# Altium footprint library Con Audio.PcbLib: 15 footprints
Each footprint in its own frame and in the unit in brackets; x right, y up, seen from the top. Pads: shape width x height; smd on the part's side, far side on the other; paste and mask are expansions set on the pad; w line width, h text height; cw(c..) or ccw(c..) is an arc to the next point about the centre after c.
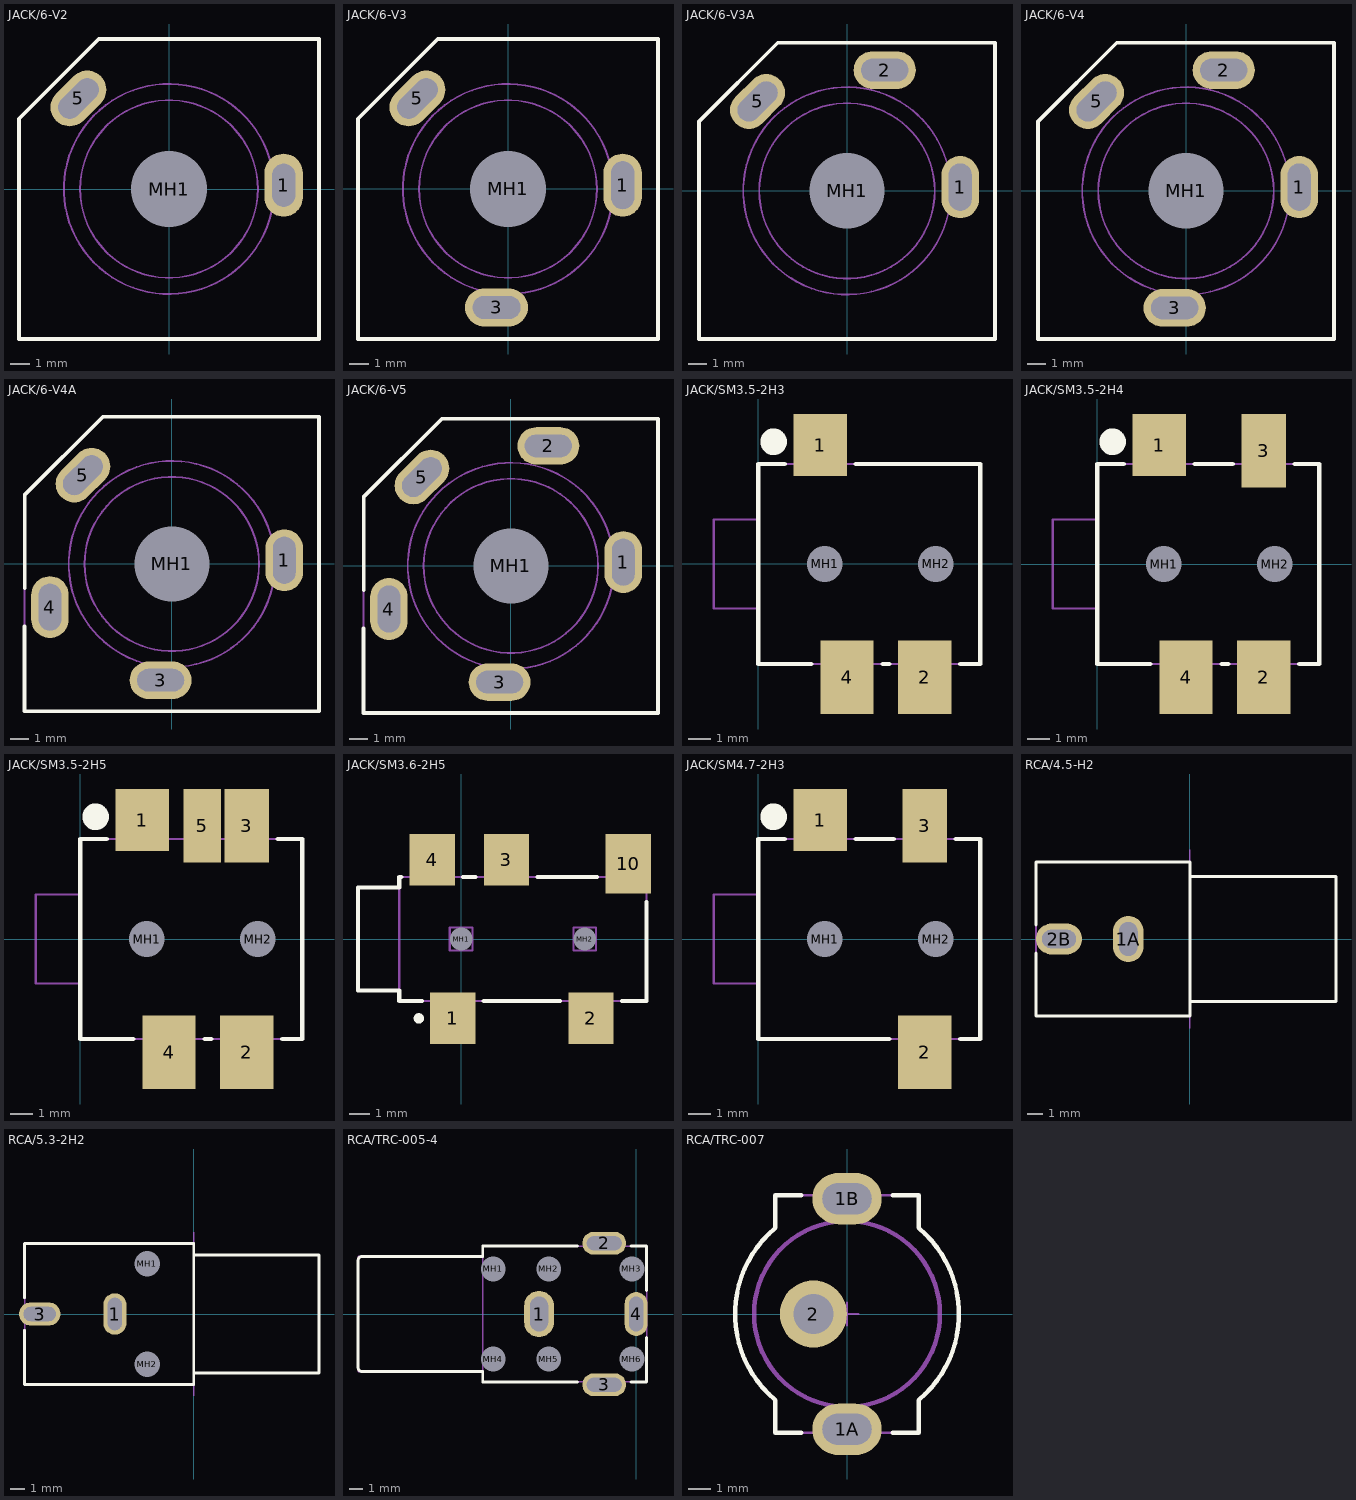
[diagram p0: the footprints below, top view; thin cyan lines are the x and y axes]

## JACK/6-V2 [mm] "Connector; Jack Socket, 1/4\" [6.5mm], Thru-Hole, 2 Position, Vertical, Body 15.7 x 15.7 x 31 mm (WxTxH)"
height 31.1
pads (3):
  oval 2x3.3 hole 1.2 slot 2.25 at 90 deg: 1(6,0.2)
  oval 2x3.3 hole 1.2 slot 2.5 at 45 deg rot 135: 5(-4.738,4.738)
  round 3.7 hole 4 unplated: MH1(0,0)
Top Overlay:
  lines w0.2: -7.85,-7.85 7.85,-7.85 7.85,7.85 -3.675,7.85 -7.85,3.675 -7.85,-7.85
Mechanical 2:
  lines w0.1: -7.85,-7.85 7.85,-7.85 7.85,7.85 -3.675,7.85 -7.85,3.675 -7.85,-7.85
Mechanical 13:
  circle w0.1: c0,0 r5.5
  circle w0.1: c0,0 r4.65
3D body: height 31.1, standoff 24, extent -4.659,-4.659 4.659,4.659
3D body: height 24, standoff 23, extent -5.511,-5.511 5.511,5.511
3D body: height 23, standoff 0, extent -7.851,-7.851 7.851,7.851

## JACK/6-V3 [mm] "Connector; Jack Socket, 1/4\" [6.5mm], Thru-Hole, 3 Position, Vertical, Body 15.7 x 15.7 x 31 mm (WxTxH)"
height 31.1
pads (4):
  oval 2x3.3 hole 1.2 slot 2.5 at 90 deg: 1(6,0.2)
  oval 3.3x2 hole 1.2 slot 2.5 at 0 deg: 3(-0.6,-6.2)
  oval 2x3.3 hole 1.2 slot 2.5 at 45 deg rot 135: 5(-4.738,4.738)
  round 3.7 hole 4 unplated: MH1(0,0)
Top Overlay:
  lines w0.2: -7.85,-7.85 -7.85,3.675 -3.675,7.85 7.85,7.85 7.85,-7.85 -7.85,-7.85
Mechanical 13:
  circle w0.1: c0,0 r4.65
  circle w0.1: c0,0 r5.5
  lines w0.1: -7.85,-7.85 7.85,-7.85 7.85,7.85 -3.675,7.85 -7.85,3.675 -7.85,-7.85
3D body: height 31.1, standoff 24, extent -4.659,-4.659 4.659,4.659
3D body: height 24, standoff 23, extent -5.511,-5.511 5.511,5.511
3D body: height 23, standoff 0, extent -7.851,-7.851 7.851,7.851

## JACK/6-V3A [mm] "Connector; Jack Socket, 1/4\" [6.5mm], Thru-Hole, 3 Position, Vertical, Body 15.7 x 15.7 x 31 mm (WxTxH)"
height 31.1
pads (4):
  oval 2x3.3 hole 1.2 slot 2.5 at 90 deg: 1(6,0.2)
  oval 3.3x2 hole 1.2 slot 2.5 at 0 deg: 2(2,6.4)
  oval 2x3.3 hole 1.2 slot 2.5 at 45 deg rot 135: 5(-4.738,4.738)
  round 3.7 hole 4 unplated: MH1(0,0)
Top Overlay:
  lines w0.2: -7.85,-7.85 -7.85,3.675 -3.675,7.85 7.85,7.85 7.85,-7.85 -7.85,-7.85
Mechanical 13:
  circle w0.1: c0,0 r4.65
  circle w0.1: c0,0 r5.5
  lines w0.1: -7.85,-7.85 7.85,-7.85 7.85,7.85 -3.675,7.85 -7.85,3.675 -7.85,-7.85
3D body: height 31.1, standoff 24, extent -4.659,-4.659 4.659,4.659
3D body: height 24, standoff 23, extent -5.511,-5.511 5.511,5.511
3D body: height 23, standoff 0, extent -7.851,-7.851 7.851,7.851

## JACK/6-V4 [mm] "Connector; Jack Socket, 1/4\" [6.5mm], Thru-Hole, 4 Position, Vertical, Body 15.7 x 15.7 x 31 mm (WxTxH)"
height 31.1
pads (5):
  oval 2x3.3 hole 1.2 slot 2.5 at 90 deg: 1(6,0.2)
  oval 3.3x2 hole 1.2 slot 2.5 at 0 deg: 2(2,6.4) 3(-0.6,-6.2)
  oval 2x3.3 hole 1.2 slot 2.5 at 45 deg rot 135: 5(-4.738,4.738)
  round 3.7 hole 4 unplated: MH1(0,0)
Top Overlay:
  lines w0.2: -7.85,-7.85 -7.85,3.675 -3.675,7.85 7.85,7.85 7.85,-7.85 -7.85,-7.85
Mechanical 13:
  circle w0.1: c0,0 r5.5
  circle w0.1: c0,0 r4.65
  lines w0.1: -7.85,-7.85 -7.85,3.675 -3.675,7.85 7.85,7.85 7.85,-7.85 -7.85,-7.85
3D body: height 31.1, standoff 24, extent -4.659,-4.659 4.659,4.659
3D body: height 24, standoff 23, extent -5.511,-5.511 5.511,5.511
3D body: height 23, standoff 0, extent -7.851,-7.851 7.851,7.851

## JACK/6-V4A [mm] "Connector; Jack Socket, 1/4\" [6.5mm], Thru-Hole, 4 Position, Vertical, Body 15.7 x 15.7 x 31 mm (WxTxH)"
height 31.1
pads (5):
  oval 2x3.3 hole 1.2 slot 2.5 at 90 deg: 1(6,0.2) 4(-6.5,-2.3)
  oval 3.3x2 hole 1.2 slot 2.5 at 0 deg: 3(-0.6,-6.2)
  oval 2x3.3 hole 1.2 slot 2.5 at 45 deg rot 135: 5(-4.738,4.738)
  round 3.7 hole 4 unplated: MH1(0,0)
Top Overlay:
  lines w0.2: -7.85,-3.32 -7.85,-7.85 7.85,-7.85 7.85,7.85 -3.675,7.85 -7.85,3.675 -7.85,-1.28
Mechanical 13:
  circle w0.1: c0,0 r4.65
  circle w0.1: c0,0 r5.5
  lines w0.1: -7.85,-7.85 7.85,-7.85 7.85,7.85 -3.675,7.85 -7.85,3.675 -7.85,-7.85
3D body: height 31.1, standoff 24, extent -4.659,-4.659 4.659,4.659
3D body: height 24, standoff 23, extent -5.511,-5.511 5.511,5.511
3D body: height 23, standoff 0, extent -7.851,-7.851 7.851,7.851

## JACK/6-V5 [mm] "Connector; Jack Socket, 1/4\" [6.5mm], Thru-Hole, 5 Position, Vertical, Body 15.7 x 15.7 x 31 mm (WxTxH)"
height 31.1
pads (6):
  oval 2x3.3 hole 1.2 slot 2.5 at 90 deg: 1(6,0.2) 4(-6.5,-2.3)
  oval 3.3x2 hole 1.2 slot 2.5 at 0 deg: 2(2,6.4) 3(-0.6,-6.2)
  oval 2x3.3 hole 1.2 slot 2.5 at 45 deg rot 135: 5(-4.738,4.738)
  round 3.7 hole 4 unplated: MH1(0,0)
Top Overlay:
  lines w0.2: -7.85,-3.32 -7.85,-7.85 7.85,-7.85 7.85,7.85 -3.675,7.85 -7.85,3.675 -7.85,-1.28
Mechanical 13:
  circle w0.1: c0,0 r5.5
  circle w0.1: c0,0 r4.65
  lines w0.1: -7.85,-7.85 7.85,-7.85 7.85,7.85 -3.675,7.85 -7.85,3.675 -7.85,-7.85
3D body: height 23, standoff 0, extent -7.851,-7.851 7.851,7.851
3D body: height 24, standoff 23, extent -5.511,-5.511 5.511,5.511
3D body: height 31.1, standoff 24, extent -4.659,-4.659 4.659,4.659

## JACK/SM3.5-2H3 [mm] "STX-2550 Series Surface Mount 2.5mm Audio Jack"
height 4
pads (5):
  rect 2.4x2.8 smd: 1(2.8,5.35)
  rect 2.4x3.3 smd: 2(7.5,-5.1) 4(4,-5.1)
  round 1.3 hole 1.6 unplated: MH1(3,0) MH2(8,0)
Top Overlay:
  circle w0.6: c0.7,5.5 r0.3
  lines w0.2: 1.2,4.5 0,4.5 0,2.25 0,-2.25 0,-4.5 2.4,-4.5 ; 4.4,4.5 10,4.5 10,-4.5 9.1,-4.5 ; 5.6,-4.5 5.9,-4.5
Mechanical 13:
  lines w0.1: -2,-2 0,-2 0,-4.5 10,-4.5 10,4.5 0,4.5 0,2 -2,2 -2,-2
3D body: height 3.98, standoff 0, extent -1.999,-1.999 0.001,1.993
3D body: height 4, standoff 0, extent 0.001,-4.499 9.999,4.499

## JACK/SM3.5-2H4 [mm] "STX-2550 Series Surface Mount 2.5mm Audio Jack"
height 4
pads (6):
  rect 2.4x2.8 smd: 1(2.8,5.35)
  rect 2.4x3.3 smd: 2(7.5,-5.1) 4(4,-5.1)
  rect 2x3.3 smd: 3(7.5,5.1)
  round 1.3 hole 1.6 unplated: MH1(3,0) MH2(8,0)
Top Overlay:
  circle w0.6: c0.7,5.5 r0.3
  lines w0.2: 1.2,4.5 0,4.5 0,2.25 0,-2.25 0,-4.5 2.4,-4.5 ; 4.4,4.5 6.1,4.5 ; 5.6,-4.5 5.9,-4.5 ; 8.9,4.5 10,4.5 10,-4.5 9.1,-4.5
Mechanical 13:
  lines w0.1: -2,-2 0,-2 0,-4.5 10,-4.5 10,4.5 0,4.5 0,2 -2,2 -2,-2
3D body: height 3.98, standoff 0, extent -1.999,-1.999 0.001,1.993
3D body: height 4, standoff 0, extent 0.001,-4.499 9.999,4.499

## JACK/SM3.5-2H5 [mm] "STX-2550 Series Surface Mount 2.5mm Audio Jack"
height 4
pads (7):
  rect 2.4x2.8 smd: 1(2.8,5.35)
  rect 2.4x3.3 smd: 2(7.5,-5.1) 4(4,-5.1)
  rect 2x3.3 smd: 3(7.5,5.1)
  rect 1.7x3.3 smd: 5(5.5,5.1)
  round 1.3 hole 1.6 unplated: MH1(3,0) MH2(8,0)
Top Overlay:
  circle w0.6: c0.7,5.5 r0.3
  lines w0.2: 1.2,4.5 0,4.5 0,2.25 0,-2.25 0,-4.5 2.4,-4.5 ; 5.6,-4.5 5.9,-4.5 ; 8.9,4.5 10,4.5 10,-4.5 9.1,-4.5
Mechanical 13:
  lines w0.1: -2,-2 0,-2 0,-4.5 10,-4.5 10,4.5 0,4.5 0,2 -2,2 -2,-2
3D body: height 3.98, standoff 0, extent -1.999,-1.999 0.001,1.993
3D body: height 4, standoff 0, extent 0.001,-4.499 9.999,4.499

## JACK/SM3.6-2H5 [mm] "Phone Jack, Right Angle, SM, Body 14x6x4.8mm (LxWxH)"
height 4.87
pads (7):
  rect 2.2x2.5 smd: 1(-0.4,-3.85) 2(6.3,-3.85) 3(2.2,3.85) 4(-1.4,3.85)
  rect 2.2x2.9 smd: 10(8.1,3.65)
  round 0.8 hole 1.1 unplated: MH1(0,0) MH2(6,0)
Top Overlay:
  circle w0.25: c-2.05,-3.85 r0.125
  lines w0.2: -2.9,3 -3,3 -3,2.5 -5,2.5 -5,-2.5 -3,-2.5 -3,-3 -1.9,-3 ; 0.1,3 0.7,3 ; 1.1,-3 4.8,-3 ; 3.7,3 6.6,3 ; 7.8,-3 9,-3 9,1.8
Mechanical 13:
  lines w0.1: -3,-2.5 -5,-2.5 -5,2.5 -3,2.5 ; -3,-3 9,-3 9,3 -3,3 -3,-3 ; -0.55,-0.55 0.55,-0.55 0.55,0.55 -0.55,0.55 -0.55,-0.55 ; 5.45,-0.55 5.45,0.55 6.55,0.55 6.55,-0.55 5.45,-0.55
3D body: height 4.87, standoff 0.1, extent -2.999,-2.999 8.999,2.999
3D body: height 4.78, standoff -0.2, extent -4.999,-2.495 -2.999,2.495
3D body: height 0.1, standoff -0.4, extent -0.549,-0.549 0.549,0.549
3D body: height 0.1, standoff -0.4, extent 5.451,-0.549 6.549,0.549

## JACK/SM4.7-2H3 [mm] "STX-2550 Series Surface Mount 2.5mm Audio Jack"
height 4
pads (5):
  rect 2.4x2.8 smd: 1(2.8,5.35)
  rect 2.4x3.3 smd: 2(7.5,-5.1)
  rect 2x3.3 smd: 3(7.5,5.1)
  round 1.3 hole 1.6 unplated: MH1(3,0) MH2(8,0)
Top Overlay:
  circle w0.6: c0.7,5.5 r0.3
  lines w0.2: 1.2,4.5 0,4.5 0,2.25 0,-2.25 0,-4.5 5.9,-4.5 ; 4.4,4.5 6.1,4.5 ; 8.9,4.5 10,4.5 10,-4.5 9.1,-4.5
Mechanical 13:
  lines w0.1: -2,-2 0,-2 0,-4.5 10,-4.5 10,4.5 0,4.5 0,2 -2,2 -2,-2
3D body: height 3.98, standoff 0, extent -1.999,-1.999 0.001,1.993
3D body: height 4, standoff 0, extent 0.001,-4.499 9.999,4.499

## RCA/4.5-H2 [mm] "Two Conductor Jack (RCA), Right Angle, Thru-Hole, Body 10 x 10 x 13 mm (WxTxH)"
height 13
pads (2):
  oval 2x3 hole 1.2 slot 2.2 at 90 deg: 1A(-4,0)
  oval 3x2 hole 1.2 slot 2.2 at 0 deg: 2B(-8.5,0)
Top Overlay:
  lines w0.2: -10,-0.92 -10,-5 0,-5 0,5 -10,5 -10,0.92 ; 0,-4.065 9.5,-4.065 9.5,4.065 0,4.065
Mechanical 1:
  lines w0.1: 0,-5.8 0,5.8
  text "PCB Edge" at -0.333,-4.618 h0.25
Mechanical 13:
  lines w0.1: 0,-4.065 9.5,-4.065 9.5,4.065 0,4.065 ; -10,-5 -10,5 0,5 0,-5 -10,-5
3D body: height 10.53, standoff 2.43, extent 0.001,-4.064 9.501,4.049
3D body: height 13, standoff 0, extent -9.999,-4.999 -0.001,4.999

## RCA/5.3-2H2 [mm] "Two Conductor Jack (RCA), Right Angle, Thru-Hole, Body 10 x 12 x 13 mm (WxTxH)"
height 13
pads (4):
  oval 1.65x2.94 hole 1 slot 2.3 at 90 deg: 1(-5.59,0)
  oval 2.94x1.65 hole 1 slot 2.3 at 0 deg: 3(-10.924,0)
  round 1.5 hole 1.8 unplated: MH1(-3.304,3.556) MH2(-3.304,-3.556)
Top Overlay:
  lines w0.2: -12,-1.15 -12,-5 0,-5 0,5 -12,5 -12,1.15 ; 0,-4.19 8.89,-4.19 8.89,4.19 0,4.19
Mechanical 1:
  lines w0.1: 0,-5.8 0,5.8
  text "PCB Edge" at -0.343,-4.647 h0.25
Mechanical 13:
  lines w0.1: 0,-4.19 8.89,-4.19 8.89,4.19 0,4.19 ; -12,-5 0,-5 0,5 -12,5 -12,-5
3D body: height 13, standoff 0, extent -11.999,-4.999 -0.001,4.999
3D body: height 10.76, standoff 2.41, extent 0.001,-4.189 8.891,4.174

## RCA/TRC-005-4 [mm] "RCA Phono Jack, Right Angle, Thru-Hole, Body 20.8 x 9.8 x 11 mm (LxWxH)"
height 11
pads (10):
  oval 2.15x3.35 hole 1.3 slot 2.5 at 90 deg: 1(-7,0)
  oval 3.15x1.65 hole 1 slot 2.5 at 0 deg: 2(-2.3,5.1) 3(-2.3,-5.1)
  oval 1.65x3.15 hole 1 slot 2.5 at 90 deg: 4(0,0)
  round 1.5 hole 1.8 unplated: MH1(-10.3,3.25) MH2(-6.3,3.25) MH3(-0.3,3.25) MH4(-10.3,-3.25) MH5(-6.3,-3.25) MH6(-0.3,-3.25)
Top Overlay:
  lines w0.2: -4.235,-4.9 -11.05,-4.9 -11.05,-4.15 -19.75,-4.15 cw(c-19.75,-3.85) -20.05,-3.85 -20.05,3.85 cw(c-19.75,3.85) -19.75,4.15 -11.05,4.15 -11.05,4.9 -4.235,4.9 ; -0.365,-4.9 0.75,-4.9 0.75,-1.69 ; -0.365,4.9 0.75,4.9 0.75,1.69
Mechanical 13:
  lines w0.1: -11.05,4.15 -20.05,4.15 -20.05,-4.15 -11.05,-4.15 -11.05,-4.9 ; -11.05,-4.9 -11.05,4.9 0.75,4.9 0.75,-4.9 -11.05,-4.9
3D body: height 11, standoff 0, extent -11.049,-4.899 0.749,4.899
3D body: height 9.12, standoff 0.85, extent -20.049,-4.149 -11.049,4.134

## RCA/TRC-007 [mm] "RCA Socket, Vertical, Thru-Hole, Body 10.6 x 10 x 15 mm (LxWxH)"
height 15
pads (3):
  oval 3.1x2.3 hole 1.4 slot 2.2 at 0 deg: 1A(0,-5.15) 1B(0,5.15)
  round 3 hole 1.8: 2(-1.5,0)
Top Overlay:
  lines w0.2: -3.221,-3.825 cw(c0,0) -3.221,3.825 ; -3.2,-3.845 -3.2,-5.3 ; -3.2,3.845 -3.2,5.3 -2.05,5.3 ; 2.05,-5.3 3.2,-5.3 3.2,-3.845 ; 2.05,5.3 3.2,5.3 3.2,3.845 ; 3.221,-3.825 ccw(c0,0) 3.221,3.825 ; -3.2,-5.3 -2.05,-5.3 -3.2,-5.3
Mechanical 13:
  circle w0.2: c0,0 r4.15
  lines w0.1: -3.221,-3.825 cw(c0,0) -3.209,3.835 ; -3.2,-3.825 -3.2,-5.3 3.2,-5.3 3.2,-3.825 ; -3.2,3.825 -3.2,5.3 3.2,5.3 3.2,3.825 ; 3.209,-3.835 ccw(c0,0) 3.209,3.835
Mechanical 15:
  lines w0.1: -0.5,0 0.5,0 ; 0,-0.5 0,0.5
3D body: height 15, standoff 0, extent -4.158,-4.158 4.158,4.158